# Altium footprint library CH_R28T.PcbLib: 1 footprints
Each footprint in its own frame and in the unit in brackets; x right, y up, seen from the top. Pads: shape width x height; smd on the part's side, far side on the other; paste and mask are expansions set on the pad; w line width, h text height; cw(c..) or ccw(c..) is an arc to the next point about the centre after c.
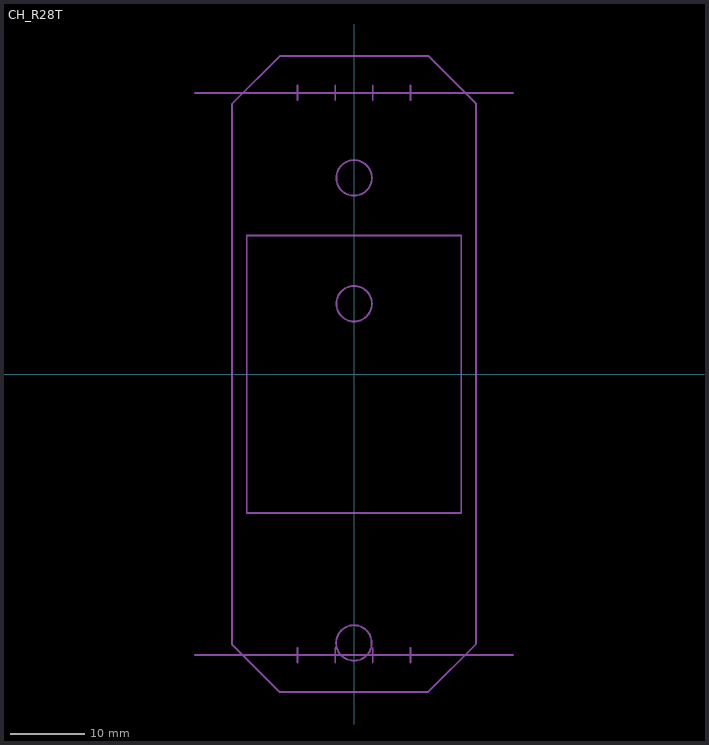
[diagram p0: the footprint, top view; thin cyan lines are the x and y axes]

## CH_R28T [mm]
height 0.55
Mechanical 14:
  circle w0.254: c0.01,26.51 r2.4
  circle w0.254: c0.01,9.51 r2.4
  circle w0.254: c-0.01,-36.34 r2.4
  lines w0.254: -21.5,-37.99 21.5,-37.99 ; -21.5,38.01 21.5,38.01 ; -7.62,-38.99 -7.62,-36.99 ; -7.62,37.01 -7.62,39.01 ; -2.54,-38.99 -2.54,-36.99 ; -2.54,37.01 -2.54,39.01 ; 2.54,-38.99 2.54,-36.99 ; 2.54,37.01 2.54,39.01 ; 7.62,-38.99 7.62,-36.99 ; 7.62,37.01 7.62,39.01 ; -16.5,-36.5 -10.01,-42.99 9.99,-42.99 16.5,-36.48 16.5,36.52 10.01,43.01 -9.99,43.01 -16.5,36.5 -16.5,-36.5 ; -14.5,-18.75 14.5,-18.75 14.5,18.75 -14.5,18.75 -14.5,-18.75
  text "TRABA RIEL DIN" at -8.234,-46.906 h1.52
  text "VENTANA SUPERIOR" at -39.273,-0.762 h1.52